# Altium footprint library DTP.PcbLib: 1 footprints
Each footprint in its own frame and in the unit in brackets; x right, y up, seen from the top. Pads: shape width x height; smd on the part's side, far side on the other; paste and mask are expansions set on the pad; w line width, h text height; cw(c..) or ccw(c..) is an arc to the next point about the centre after c.
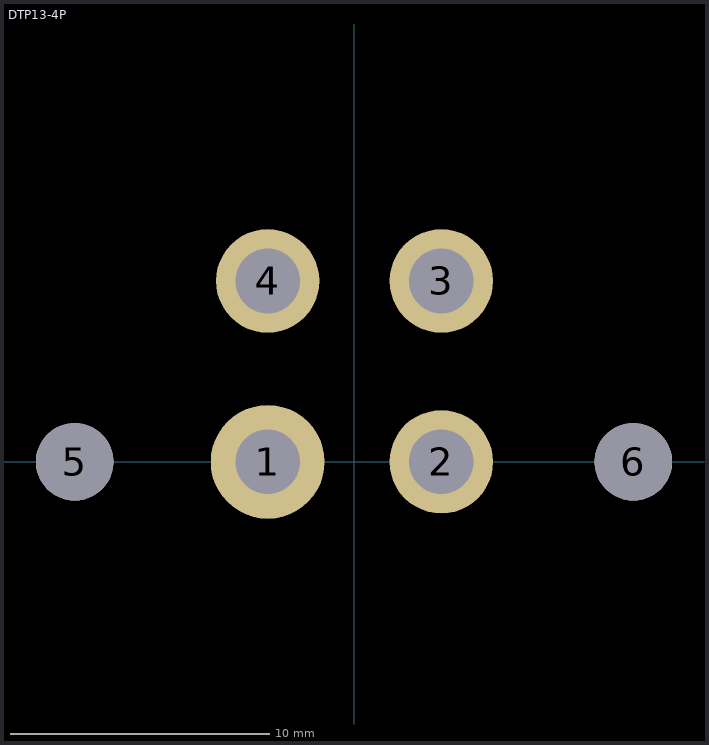
[diagram p0: the footprint, top view; thin cyan lines are the x and y axes]

## DTP13-4P [mm]
pads (6):
  round 4.4 hole 2.5: 1(-3.335,0)
  round 4 hole 2.5: 2(3.375,0) 3(3.375,6.99) 4(-3.335,6.99)
  round 3 hole 3: 5(-10.795,0) 6(10.795,0)
3D body "c-dtp13-4p-b-3d.stp": height 38.57, standoff -1.78, extent -27.051,-4.343 27.051,42.316